# Altium schematic symbol library PCB_Project.SCHLIB: 7 symbols
Pins are listed as number, name and electrical type; pins without a type are passive.

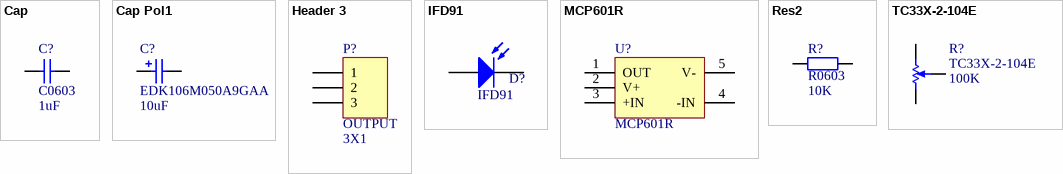
[diagram p0: symbols Cap to TC33X-2-104E]

## Cap
designator C?, comment C0603  value 1uF
Ceramic Capacitor
footprint 1608[0603] (Chip Capacitor, Body 1.6x0.8mm, IPC High Density)
pins: 1, 2

## Cap Pol1
designator C?, comment EDK106M050A9GAA  value 10uF
Aluminium Electrolytic Capacitor
footprint EDK106M050A9GAA (Aluminum Electrolytic Capacitor, Body 6,60x6,60x5,40mm, IPC Low Density)
pins: 1, 2
1 alternate drawing of the same symbol

## Header 3
designator P?, comment OUTPUT  value 3X1
Header, 3-Pin
footprint HDR1X3 (Connector; Header; 3 Position)
pins: 1, 2, 3

## IFD91
designator D?
Fotodiode For PMMA
footprint IFD91
pins: 1 K, 2 A

## MCP601R
designator U?
Single Supply Operational Amplifier
footprint MCP601_SOT23 (SOT23, 5-Leads, Body 2,90x2,70mm, Pitch 0,95mm, IPC Medium Density)
pins: 1 OUT, 2 V+, 3 +IN, 4 -IN, 5 V-

## Res2
designator R?, comment R0603  value 10K
Resistor
footprint J1-0603 (Chip Resistor, Body 1.6x0.8mm, IPC High Density)
pins: 1, 2

## TC33X-2-104E
designator R?  value 100K
Potentiometer
footprint TC33X-2-104E
pins: 1 +, 2 W, 3 -
1 alternate drawing of the same symbol